# EAGLE library part LPC1311FHN33 (library nxp_60_1_1)
32-bit ARM Cortex-M3 microcontroller; up to 32 kB flash and 8 kB SRAM; USB device The LPC1311/13/42/43 are ARM Cortex-M3 based microcontrollers for embedded applications featuring a high level of integration and low power consumption. The ARM Cortex-M3 is a next generation core that offers system enhancements such as enhanced debug features and a higher level of support block integration. The LPC1311/13/42/43 operate at CPU frequencies of up to 72 MHz. The ARM Cortex-M3 CPU incorporates a 3-stage pipeline and uses a Harvard architecture with separate local instruction and data buses as well as a third bus for peripherals. The ARM Cortex-M3 CPU also includes an internal prefetch unit that supports speculative branching. The peripheral complement of the LPC1311/13/42/43 includes up to 32 kB of flash memory, up to 8 kB of data memory, USB Device (LPC1342/43 only), one Fast-mode Plus I 2 C-bus interface, one UART, four general purpose timers, and up to 42 general purpose I/O pins. Remark: The LPC1311/13/42/43 series consists of the LPC1300 series (parts LPC1311/13/42/43) and the LPC1300L series (parts LPC1311/01 and LPC1313/01). The LPC1300L series features the following enhancements over the LPC1300 series: Power profiles with lower power consumption in Active and Sleep modes. Four levels for BOD forced reset. Second SSP controller (LPC1313FBD48/01 only). Windowed Watchdog Timer (WWDT). Internal pull-up resistors pull up pins to full VDD level. Programmable pseudo open-drain mode for GPIO pins. AAL Eindhoven MK
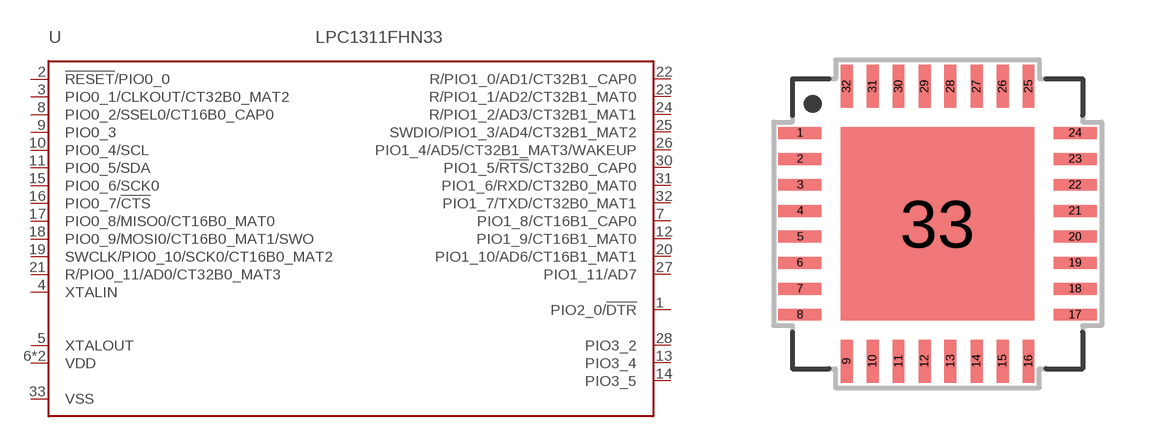
[diagram p7: symbol with the pads of SOT-HVQFN33; footprint SOT-HVQFN33]

Designator prefix U

## LPC1311FHN33 (ADC: 8; FLASH: 8kB; PWR_PROFILES: no; SERIES: LPC1300; SRAM: 4kB; SSP: 1; USB: -), LPC1311FHN33/01 (ADC: 8; FLASH: 8kB; PWR_PROFILES: yes; SERIES: LPC1300L; SRAM: 4kB; SSP: 1; USB: -)  [SOT-HVQFN33]
1  PIO2_0/!DTR!
2  !RESET!/PIO0_0
3  PIO0_1/CLKOUT/CT32B0_MAT2
4  XTALIN  in
5  XTALOUT  out
6  VDD  pwr
7  PIO1_8/CT16B1_CAP0
8  PIO0_2/SSEL0/CT16B0_CAP0
9  PIO0_3
10  PIO0_4/SCL
11  PIO0_5/SDA
12  PIO1_9/CT16B1_MAT0
13  PIO3_4
14  PIO3_5
15  PIO0_6/SCK0
16  PIO0_7/!CTS!
17  PIO0_8/MISO0/CT16B0_MAT0
18  PIO0_9/MOSI0/CT16B0_MAT1/SWO
19  SWCLK/PIO0_10/SCK0/CT16B0_MAT2
20  PIO1_10/AD6/CT16B1_MAT1
21  R/PIO0_11/AD0/CT32B0_MAT3
22  R/PIO1_0/AD1/CT32B1_CAP0
23  R/PIO1_1/AD2/CT32B1_MAT0
24  R/PIO1_2/AD3/CT32B1_MAT1
25  SWDIO/PIO1_3/AD4/CT32B1_MAT2
26  PIO1_4/AD5/CT32B1_MAT3/WAKEUP
27  PIO1_11/AD7
28  PIO3_2
29  VDD  pwr
30  PIO1_5/!RTS!/CT32B0_CAP0
31  PIO1_6/RXD/CT32B0_MAT0
32  PIO1_7/TXD/CT32B0_MAT1
33  VSS  pwr

## Footprint SOT-HVQFN33 (pad centres in mm)
SOTxxx HVQFN33: plastic thermal enhanced very thin quad flat package; no leads; 33 terminals; body 7 x 7 x 0.85 mm JEDEC: --- IEC: --- Package according LPC111x datasheet
smd 1.075 x 0.3: 1 -3.438,2.275; 2 -3.438,1.625; 3 -3.438,0.975; 4 -3.438,0.325; 5 -3.438,-0.325; 6 -3.438,-0.975; 7 -3.438,-1.625; 8 -3.438,-2.275; 17 3.438,-2.275; 18 3.438,-1.625; 19 3.438,-0.975; 20 3.438,-0.325; 21 3.438,0.325; 22 3.438,0.975; 23 3.438,1.625; 24 3.438,2.275
smd 0.3 x 1.075: 9 -2.275,-3.438; 10 -1.625,-3.438; 11 -0.975,-3.438; 12 -0.325,-3.438; 13 0.325,-3.438; 14 0.975,-3.438; 15 1.625,-3.438; 16 2.275,-3.438; 25 2.275,3.438; 26 1.625,3.438; 27 0.975,3.438; 28 0.325,3.438; 29 -0.325,3.438; 30 -0.975,3.438; 31 -1.625,3.438; 32 -2.275,3.438
smd 4.85 x 4.85: 33 0,0